# Altium footprint library TIDA-01576_ADS8686S_AFE.PcbLib: 71 footprints (part 1 of 5)
Each footprint in its own frame and in the unit in brackets; x right, y up, seen from the top. Pads: shape width x height; smd on the part's side, far side on the other; paste and mask are expansions set on the pad; w line width, h text height; cw(c..) or ccw(c..) is an arc to the next point about the centre after c.
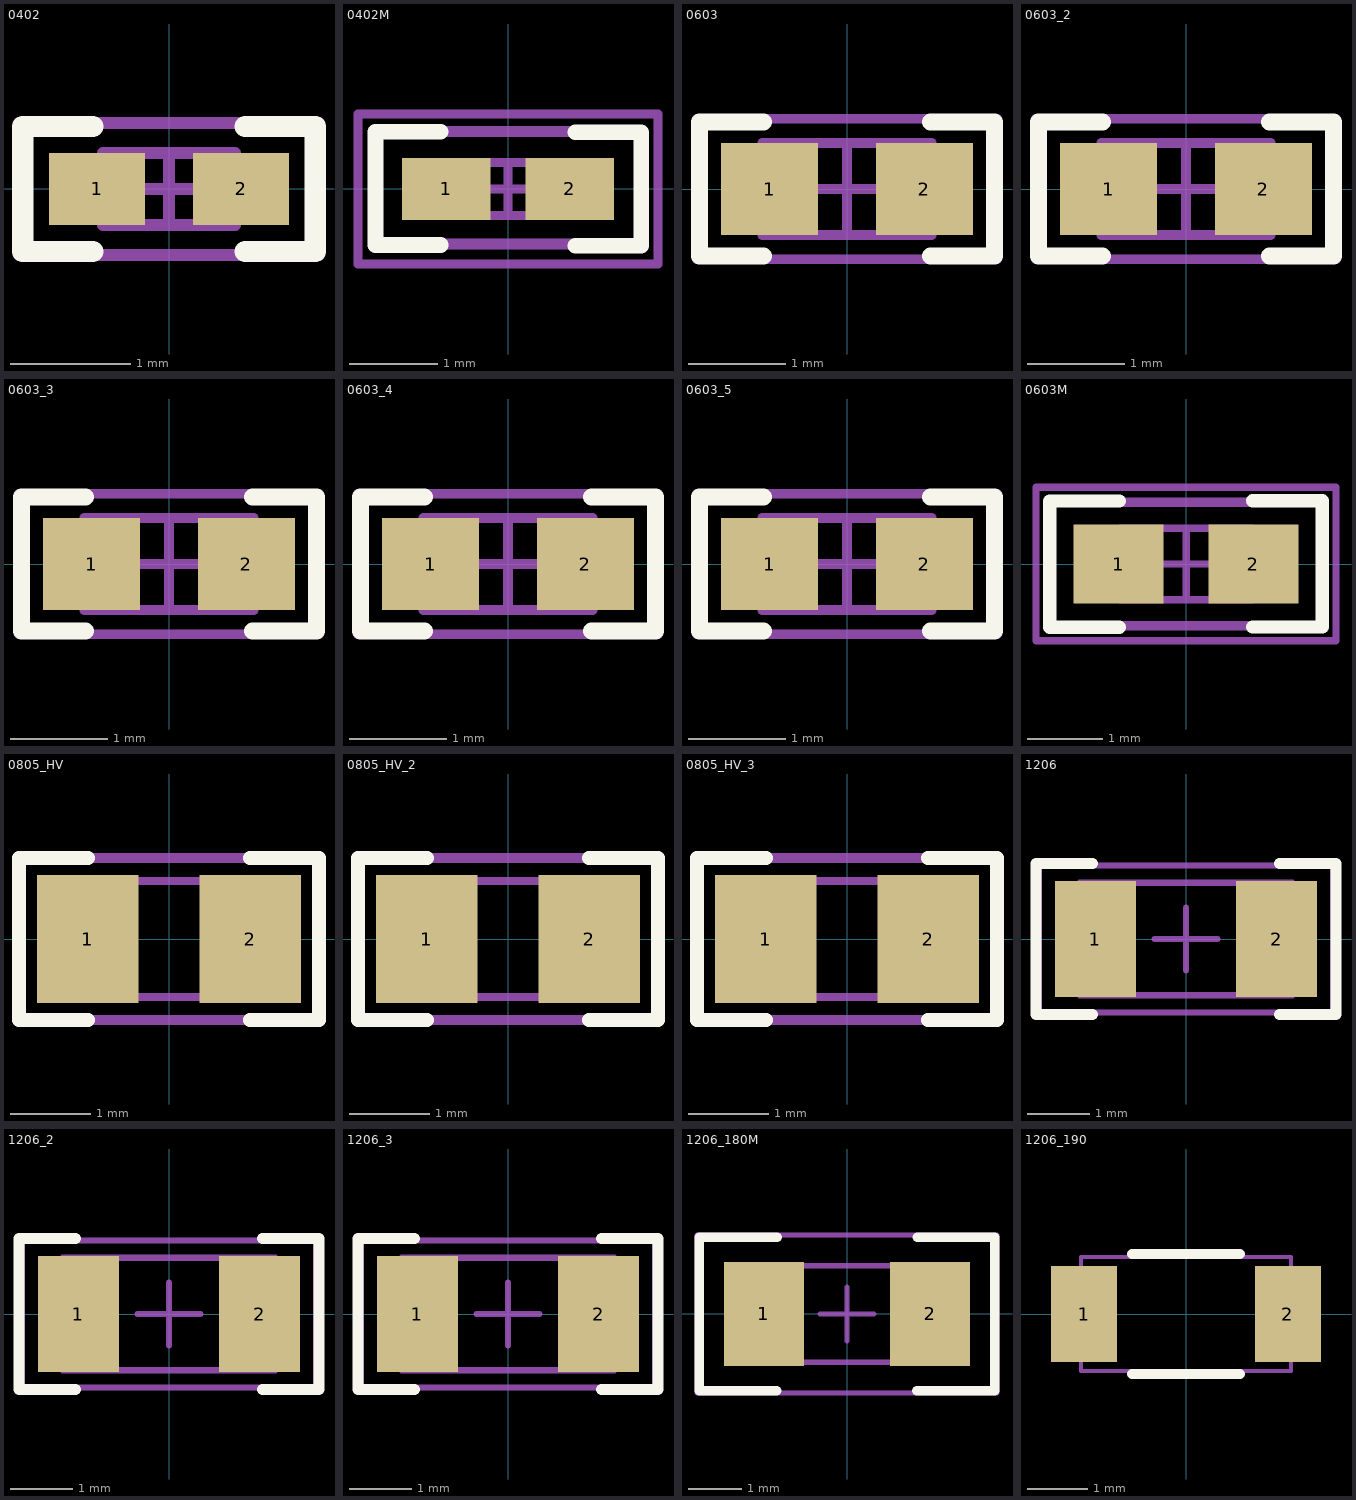
[diagram p0: the footprints below, top view; thin cyan lines are the x and y axes]

## 0402 [mm] "0402 from SM-752 data"
height 0.6
pads (2):
  rect 0.8x0.6 smd: 1(-0.6,0) 2(0.6,0)
Top Overlay:
  lines w0.178: -0.635,-0.521 -1.219,-0.521 -1.219,0.521 -0.635,0.521 ; 0.635,-0.521 1.219,-0.521 1.219,0.521 0.635,0.521
Mechanical 5:
  lines w0.1: -1.25,-0.55 -1.25,0.55 1.25,0.55 1.25,-0.55 -1.25,-0.55
  text ".Designator" at 0.542,0.297 h0.51
Mechanical 13:
  lines w0.1: -0.35,-0.3 -0.35,0.3 ; 0.35,-0.3 0.35,0.3 ; -0.55,-0.3 0.55,-0.3 0.55,0.3 -0.55,0.3 -0.55,-0.3
Mechanical 15:
  lines w0.1: -0.3,0 0.3,0 ; 0,-0.3 0,0.3 ; -1.25,-0.55 1.25,-0.55 1.25,0.55 -1.25,0.55 -1.25,-0.55
3D body: height 0.6, standoff 0, extent 0.351,-0.299 0.549,0.299
3D body: height 0.6, standoff 0, extent -0.349,-0.299 0.349,0.299
3D body: height 0.6, standoff 0, extent -0.549,-0.299 -0.351,0.299

## 0402M [mm] "0402 from SM-752 data"
height 0.6
pads (2):
  rect 1x0.7 smd: 1(-0.7,0) 2(0.7,0)
Top Overlay:
  lines w0.178: -1.501,-0.635 -0.762,-0.635 ; -1.501,-0.627 -1.501,0.63 ; -1.501,0.65 -0.762,0.65 ; 0.762,-0.643 1.511,-0.643 ; 0.762,0.643 1.511,0.643 ; 1.511,-0.622 1.511,0.635
Mechanical 5:
  lines w0.127: -1.5,-0.625 -1.5,0.65 1.525,0.65 1.525,-0.625 -1.5,-0.625
  text ".Designator" at 0.611,0.221 h0.51
Mechanical 13:
  lines w0.1: -0.35,-0.3 -0.35,0.3 ; 0.35,-0.3 0.35,0.3 ; -0.55,-0.3 -0.55,0.3 0.55,0.3 0.55,-0.3 -0.55,-0.3
Mechanical 15:
  lines w0.1: -0.3,0 0.3,0 ; 0,-0.3 0,0.3 ; -1.7,-0.85 -1.7,0.85 1.7,0.85 1.7,-0.85 -1.7,-0.85
3D body: height 0.6, standoff 0, extent -0.549,-0.299 -0.351,0.299
3D body: height 0.6, standoff 0, extent -0.349,-0.299 0.349,0.299
3D body: height 0.6, standoff 0, extent 0.351,-0.299 0.549,0.299

## 0603 [mm] "0603 from SM-752 data"
height 1
pads (2):
  rect 1x0.95 smd: 1(-0.8,0) 2(0.8,0)
Top Overlay:
  lines w0.178: -0.864,-0.691 -1.524,-0.691 -1.524,0.693 -0.864,0.693 ; 0.864,-0.691 1.524,-0.691 1.524,0.693 0.864,0.693
Mechanical 5:
  lines w0.1: -1.55,-0.725 1.55,-0.725 1.55,0.725 -1.55,0.725 -1.55,-0.725
  text ".Designator" at -0.813,-0.242 h0.51
Mechanical 13:
  lines w0.1: -0.55,-0.475 -0.55,0.475 ; 0.55,-0.475 0.55,0.475 ; -0.875,-0.475 -0.875,0.475 0.875,0.475 0.875,-0.475 -0.875,-0.475
Mechanical 15:
  lines w0.1: -0.475,0 0.475,0 ; 0,-0.475 0,0.475 ; -1.55,-0.725 -1.55,0.725 1.55,0.725 1.55,-0.725 -1.55,-0.725
3D body: height 1, standoff 0, extent 0.551,-0.474 0.874,0.474
3D body: height 1, standoff 0, extent -0.549,-0.474 0.549,0.474
3D body: height 1, standoff 0, extent -0.874,-0.474 -0.551,0.474

## 0603_2 [mm]
pads (2):
  rect 1x0.95 smd: 1(-0.8,0) 2(0.8,0)
Top Overlay:
  lines w0.178: -0.864,-0.691 -1.524,-0.691 -1.524,0.693 -0.864,0.693 ; 0.864,-0.691 1.524,-0.691 1.524,0.693 0.864,0.693
Mechanical 5:
  lines w0.1: -1.55,-0.725 -1.55,0.725 1.55,0.725 1.55,-0.725 -1.55,-0.725
  text ".Designator" at 0.571,0.279 h0.51
Mechanical 13:
  lines w0.1: -0.55,-0.475 -0.55,0.475 ; 0.55,-0.475 0.55,0.475 ; -0.875,-0.475 0.875,-0.475 0.875,0.475 -0.875,0.475 -0.875,-0.475
Mechanical 15:
  lines w0.1: -0.475,0 0.475,0 ; 0,-0.475 0,0.475 ; -1.55,-0.725 1.55,-0.725 1.55,0.725 -1.55,0.725 -1.55,-0.725
3D body: height 1, standoff 0, extent -0.874,-0.474 -0.551,0.474
3D body: height 1, standoff 0, extent -0.549,-0.474 0.549,0.474
3D body: height 1, standoff 0, extent 0.551,-0.474 0.874,0.474

## 0603_3 [mm]
pads (2):
  rect 1x0.95 smd: 1(-0.8,0) 2(0.8,0)
Top Overlay:
  lines w0.178: -0.864,-0.691 -1.524,-0.691 -1.524,0.693 -0.864,0.693 ; 0.864,-0.691 1.524,-0.691 1.524,0.693 0.864,0.693
Mechanical 5:
  lines w0.1: -1.55,-0.725 -1.55,0.725 1.55,0.725 1.55,-0.725 -1.55,-0.725
  text ".Designator" at 0.711,0.267 h0.51
Mechanical 13:
  lines w0.1: -0.55,-0.475 -0.55,0.475 ; 0.55,-0.475 0.55,0.475 ; -0.875,-0.475 0.875,-0.475 0.875,0.475 -0.875,0.475 -0.875,-0.475
Mechanical 15:
  lines w0.1: -0.475,0 0.475,0 ; 0,-0.475 0,0.475 ; -1.55,-0.725 1.55,-0.725 1.55,0.725 -1.55,0.725 -1.55,-0.725
3D body: height 1, standoff 0, extent -0.874,-0.474 -0.551,0.474
3D body: height 1, standoff 0, extent -0.549,-0.474 0.549,0.474
3D body: height 1, standoff 0, extent 0.551,-0.474 0.874,0.474

## 0603_4 [mm]
pads (2):
  rect 1x0.95 smd: 1(-0.8,0) 2(0.8,0)
Top Overlay:
  lines w0.178: -0.864,-0.691 -1.524,-0.691 -1.524,0.693 -0.864,0.693 ; 0.864,-0.691 1.524,-0.691 1.524,0.693 0.864,0.693
Mechanical 5:
  lines w0.1: -1.55,-0.725 -1.55,0.725 1.55,0.725 1.55,-0.725 -1.55,-0.725
  text ".Designator" at 0.815,0.328 h0.51
Mechanical 13:
  lines w0.1: -0.55,-0.475 -0.55,0.475 ; 0.55,-0.475 0.55,0.475 ; -0.875,-0.475 0.875,-0.475 0.875,0.475 -0.875,0.475 -0.875,-0.475
Mechanical 15:
  lines w0.1: -0.475,0 0.475,0 ; 0,-0.475 0,0.475 ; -1.55,-0.725 1.55,-0.725 1.55,0.725 -1.55,0.725 -1.55,-0.725
3D body: height 1, standoff 0, extent -0.874,-0.474 -0.551,0.474
3D body: height 1, standoff 0, extent -0.549,-0.474 0.549,0.474
3D body: height 1, standoff 0, extent 0.551,-0.474 0.874,0.474

## 0603_5 [mm]
pads (2):
  rect 1x0.95 smd: 1(-0.8,0) 2(0.8,0)
Top Overlay:
  lines w0.178: -0.864,-0.691 -1.524,-0.691 -1.524,0.693 -0.864,0.693 ; 0.864,-0.691 1.524,-0.691 1.524,0.693 0.864,0.693
Mechanical 5:
  lines w0.1: -1.55,-0.725 1.55,-0.725 1.55,0.725 -1.55,0.725 -1.55,-0.725
  text ".Designator" at 0.71,0.212 h0.51
Mechanical 13:
  lines w0.1: -0.55,-0.475 -0.55,0.475 ; 0.55,-0.475 0.55,0.475 ; -0.875,-0.475 -0.875,0.475 0.875,0.475 0.875,-0.475 -0.875,-0.475
Mechanical 15:
  lines w0.1: -0.475,0 0.475,0 ; 0,-0.475 0,0.475 ; -1.55,-0.725 -1.55,0.725 1.55,0.725 1.55,-0.725 -1.55,-0.725
3D body: height 1, standoff 0, extent 0.551,-0.474 0.874,0.474
3D body: height 1, standoff 0, extent -0.549,-0.474 0.549,0.474
3D body: height 1, standoff 0, extent -0.874,-0.474 -0.551,0.474

## 0603M [mm] "0603 from SM-752 data"
height 1
pads (2):
  rect 1.2x1.05 smd: 1(-0.9,0) 2(0.9,0)
Top Overlay:
  lines w0.178: -1.819,0.805 -1.819,-0.843 -0.889,-0.843 ; -1.819,0.841 -0.889,0.841 ; 0.889,-0.841 1.819,-0.841 ; 0.889,0.843 1.819,0.843 1.819,-0.805
Mechanical 5:
  lines w0.127: -1.825,-0.825 1.825,-0.825 1.825,0.825 -1.825,0.825 -1.825,-0.825
  text ".Designator" at 0.637,0.254 h0.51
Mechanical 13:
  lines w0.1: -0.55,-0.475 -0.55,0.475 ; 0.55,-0.475 0.55,0.475 ; -0.875,-0.475 0.875,-0.475 0.875,0.475 -0.875,0.475 -0.875,-0.475
Mechanical 15:
  lines w0.1: -0.475,0 0.475,0 ; 0,-0.475 0,0.475 ; -2,-1.025 2,-1.025 2,1.025 -2,1.025 -2,-1.025
3D body: height 1, standoff 0, extent -0.874,-0.474 -0.551,0.474
3D body: height 1, standoff 0, extent -0.549,-0.474 0.549,0.474
3D body: height 1, standoff 0, extent 0.551,-0.474 0.874,0.474

## 0805_HV [mil] "0805 with 30mil clearance between pads"
height 57.09
pads (2):
  rect 50x63 smd: 1(-40,0) 2(40,0)
Top Overlay:
  lines w7: -40,-40 -74,-40 -74,0 -74,40 -40,40 ; 40,-40 74,-40 74,0 74,40 40,40
Mechanical 5:
  lines w5: -74,-40 -74,40 74,40 74,-40 -74,-40
  text ".Designator" at 31,14 h20
Mechanical 13:
  lines w3.94: -25.59,-28.54 -25.59,28.54 ; 25.59,-28.54 25.59,28.54 ; -43.31,-28.54 -43.31,28.54 43.31,28.54 43.31,-28.54 -43.31,-28.54
3D body: height 57.09, standoff 0, extent 25.61,-28.52 43.29,28.52
3D body: height 57.09, standoff 0, extent -25.57,-28.52 25.57,28.52
3D body: height 57.09, standoff 0, extent -43.29,-28.52 -25.61,28.52

## 0805_HV_2 [mil]
pads (2):
  rect 50x63 smd: 1(-40,0) 2(40,0)
Top Overlay:
  lines w7: -40,-40 -74,-40 -74,0 -74,40 -40,40 ; 40,-40 74,-40 74,0 74,40 40,40
Mechanical 5:
  lines w5: -74,-40 -74,40 74,40 74,-40 -74,-40
  text ".Designator" at -30,-4.93 h20
Mechanical 13:
  lines w3.94: -25.59,-28.54 -25.59,28.54 ; 25.59,-28.54 25.59,28.54 ; -43.31,-28.54 -43.31,28.54 43.31,28.54 43.31,-28.54 -43.31,-28.54
3D body: height 57.09, standoff 0, extent 25.61,-28.52 43.29,28.52
3D body: height 57.09, standoff 0, extent -25.57,-28.52 25.57,28.52
3D body: height 57.09, standoff 0, extent -43.29,-28.52 -25.61,28.52

## 0805_HV_3 [mil]
pads (2):
  rect 50x63 smd: 1(-40,0) 2(40,0)
Top Overlay:
  lines w7: -40,-40 -74,-40 -74,0 -74,40 -40,40 ; 40,-40 74,-40 74,0 74,40 40,40
Mechanical 5:
  lines w5: -74,-40 74,-40 74,40 -74,40 -74,-40
  text ".Designator" at -25.49,-8.02 h20
Mechanical 13:
  lines w3.94: -25.59,-28.54 -25.59,28.54 ; 25.59,-28.54 25.59,28.54 ; -43.31,-28.54 43.31,-28.54 43.31,28.54 -43.31,28.54 -43.31,-28.54
3D body: height 57.09, standoff 0, extent -43.29,-28.52 -25.61,28.52
3D body: height 57.09, standoff 0, extent -25.57,-28.52 25.57,28.52
3D body: height 57.09, standoff 0, extent 25.61,-28.52 43.29,28.52

## 1206 [mm] "1206 from SM-752 data"
height 1.35
pads (2):
  rect 1.3x1.85 smd: 1(-1.45,0) 2(1.45,0)
Top Overlay:
  lines w0.178: -1.5,-1.21 -2.4,-1.21 -2.4,1.21 -1.5,1.21 ; 1.5,-1.21 2.4,-1.21 2.4,1.21 1.5,1.21
Mechanical 5:
  lines w0.1: -1.7,-0.9 -1.7,0.9 1.7,0.9 1.7,-0.9 -1.7,-0.9
  text ".Designator" at -0.838,-0.203 h0.51
Mechanical 13:
  lines w0.1: -1.2,-0.9 -1.2,0.9 ; 1.2,-0.9 1.2,0.9 ; -1.7,-0.9 -1.7,0.9 1.7,0.9 1.7,-0.9 -1.7,-0.9
Mechanical 15:
  lines w0.1: -0.5,0 0.5,0 ; 0,-0.5 0,0.5 ; -2.35,-1.175 -2.35,1.175 2.35,1.175 2.35,-1.175 -2.35,-1.175
3D body: height 1.35, standoff 0, extent 1.201,-0.899 1.699,0.899
3D body: height 1.35, standoff 0, extent -1.199,-0.899 1.199,0.899
3D body: height 1.35, standoff 0, extent -1.699,-0.899 -1.201,0.899

## 1206_2 [mm]
pads (2):
  rect 1.3x1.85 smd: 1(-1.45,0) 2(1.45,0)
Top Overlay:
  lines w0.178: -1.5,-1.21 -2.4,-1.21 -2.4,1.21 -1.5,1.21 ; 1.5,-1.21 2.4,-1.21 2.4,1.21 1.5,1.21
Mechanical 5:
  lines w0.1: -1.7,-0.9 -1.7,0.9 1.7,0.9 1.7,-0.9 -1.7,-0.9
  text ".Designator" at 0.787,0.381 h0.51
Mechanical 13:
  lines w0.1: -1.2,-0.9 -1.2,0.9 ; 1.2,-0.9 1.2,0.9 ; -1.7,-0.9 -1.7,0.9 1.7,0.9 1.7,-0.9 -1.7,-0.9
Mechanical 15:
  lines w0.1: -0.5,0 0.5,0 ; 0,-0.5 0,0.5 ; -2.35,-1.175 -2.35,1.175 2.35,1.175 2.35,-1.175 -2.35,-1.175
3D body: height 1.35, standoff 0, extent 1.201,-0.899 1.699,0.899
3D body: height 1.35, standoff 0, extent -1.199,-0.899 1.199,0.899
3D body: height 1.35, standoff 0, extent -1.699,-0.899 -1.201,0.899

## 1206_3 [mm]
pads (2):
  rect 1.3x1.85 smd: 1(-1.45,0) 2(1.45,0)
Top Overlay:
  lines w0.178: -1.5,-1.21 -2.4,-1.21 -2.4,1.21 -1.5,1.21 ; 1.5,-1.21 2.4,-1.21 2.4,1.21 1.5,1.21
Mechanical 5:
  lines w0.1: -1.7,-0.9 1.7,-0.9 1.7,0.9 -1.7,0.9 -1.7,-0.9
  text ".Designator" at -0.454,0.463 h0.51
Mechanical 13:
  lines w0.1: -1.2,-0.9 -1.2,0.9 ; 1.2,-0.9 1.2,0.9 ; -1.7,-0.9 1.7,-0.9 1.7,0.9 -1.7,0.9 -1.7,-0.9
Mechanical 15:
  lines w0.1: -0.5,0 0.5,0 ; 0,-0.5 0,0.5 ; -2.35,-1.175 2.35,-1.175 2.35,1.175 -2.35,1.175 -2.35,-1.175
3D body: height 1.35, standoff 0, extent -1.699,-0.899 -1.201,0.899
3D body: height 1.35, standoff 0, extent -1.199,-0.899 1.199,0.899
3D body: height 1.35, standoff 0, extent 1.201,-0.899 1.699,0.899

## 1206_180M [mm] "1206_180"
height 1.8
pads (2):
  rect 1.5x1.95 smd: 1(-1.55,0) 2(1.55,0)
Top Overlay:
  lines w0.178: -2.758,-1.43 -2.753,-1.435 ; -1.313,-1.435 -2.758,-1.435 -2.758,1.435 -1.303,1.435 ; 1.306,-1.435 2.761,-1.435 2.761,1.435 1.316,1.435 ; 2.756,1.435 2.761,1.43
Mechanical 5:
  lines w0.1: -1.7,-0.9 -1.7,0.9 1.7,0.9 1.7,-0.9 -1.7,-0.9
  text ".Designator" at -0.457,-0.254 h0.51
Mechanical 15:
  lines w0.1: -0.5,0 0.5,0 ; 0,-0.5 0,0.5 ; -2.8,-1.475 2.8,-1.475 2.8,1.475 -2.8,1.475 -2.8,-1.475
3D body: height 1.8, standoff 0, extent -1.749,-0.949 -1.3,0.95
3D body: height 1.8, standoff 0, extent -1.299,-0.949 1.3,0.95
3D body: height 1.8, standoff 0, extent 1.301,-0.949 1.75,0.95

## 1206_190 [mm] "1206_190"
height 1.9
pads (2):
  rect 1.1x1.6 smd: 1(-1.7,0) 2(1.7,0)
Top Overlay:
  lines w0.17: -0.9,-1 0.9,-1 ; -0.9,1 0.9,1
Mechanical 5:
  lines w0.07: -1.75,-0.95 -1.75,0.95 1.75,0.95 1.75,-0.95 -1.75,-0.95
  text ".Designator" at -0.514,-0.144 h0.51
3D body: height 1.9, standoff 0, extent 1.301,-0.949 1.749,0.949
3D body: height 1.9, standoff 0, extent -1.299,-0.949 1.299,0.949
3D body: height 1.9, standoff 0, extent -1.749,-0.949 -1.301,0.949